# Altium integrated library ECA1CM471.IntLib: 1 symbol
Pins are listed as number, name and electrical type; pins without a type are passive.

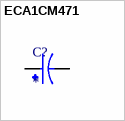
[diagram p0: symbol ECA1CM471]

## ECA1CM471
designator C?
470F 16V Aluminum Electrolytic Capacitors Radial, Can 2000 Hrs @ 85C; MF: Panasonic; MP: ECA1CM471; Package: RADIAL-2 Panasonic; Check_prices: https://www.snapeda.com/parts/ECA1CM471/Panasonic/view-part/5788233/?ref=eda; Value: *; Price: None; SnapEDA_Link: https://www.snapeda.com/parts/ECA1CM471/Panasonic/view-part/5788233/?ref=snap; Availability: No availability data
footprint CAPPRD350W60D800H1150
pins: N, P